# Altium footprint library Fuse.PcbLib: 10 footprints
Each footprint in its own frame and in the unit in brackets; x right, y up, seen from the top. Pads: shape width x height; smd on the part's side, far side on the other; paste and mask are expansions set on the pad; w line width, h text height; cw(c..) or ccw(c..) is an arc to the next point about the centre after c.
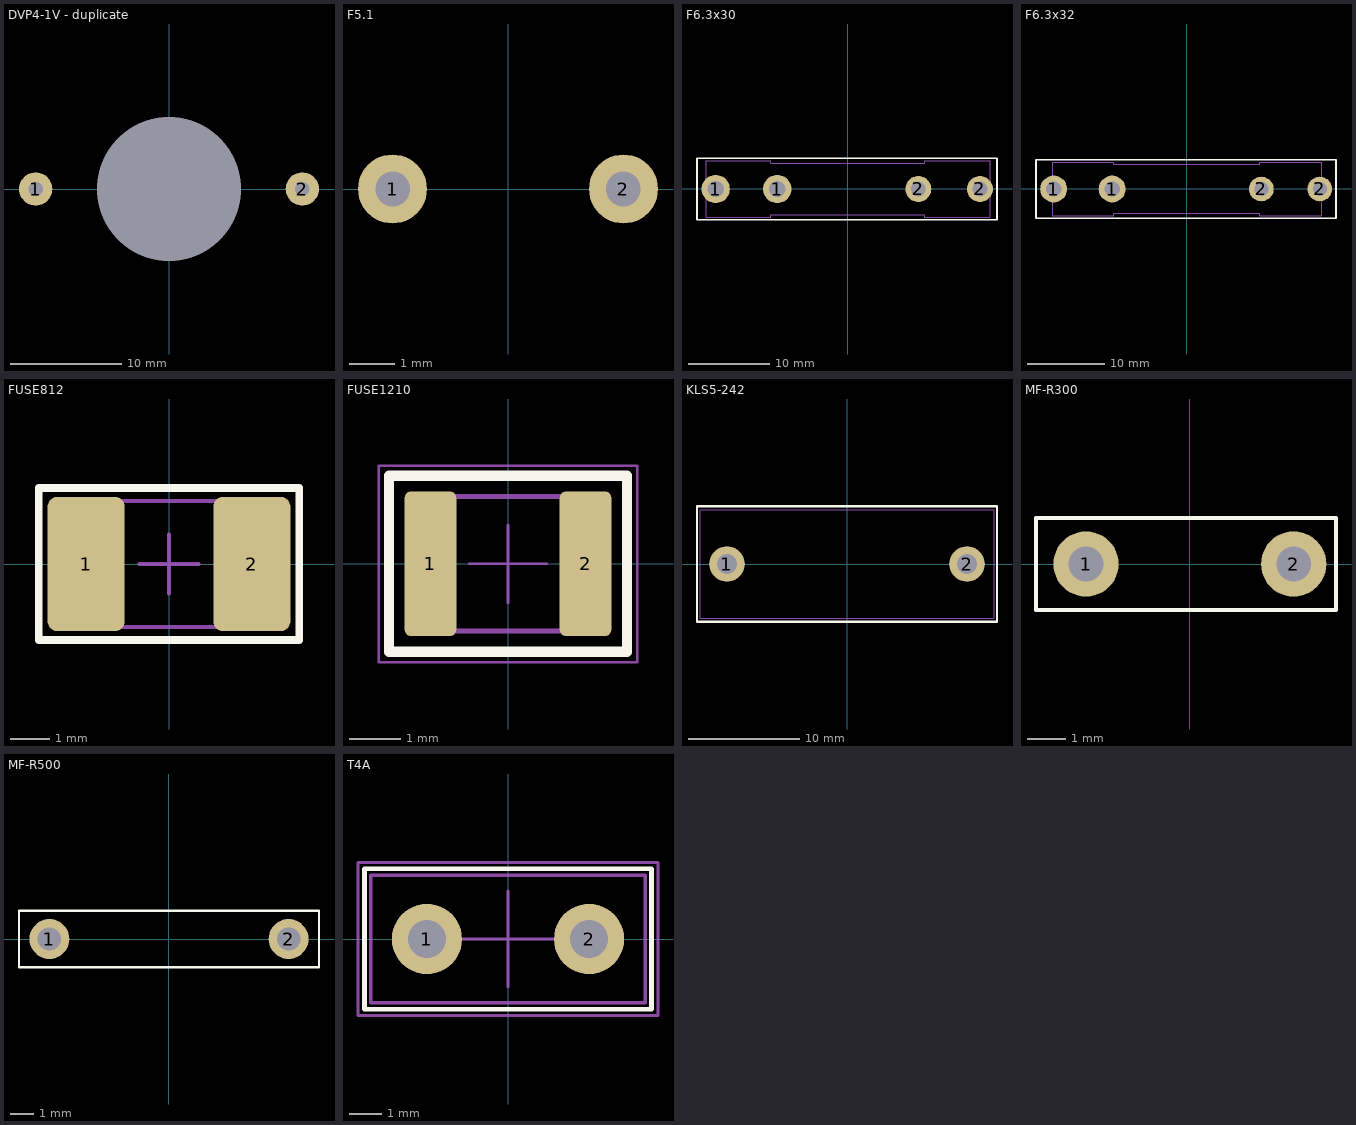
[diagram p0: the footprints below, top view; thin cyan lines are the x and y axes]

## DVP4-1V - duplicate [mm]
pads (3):
  round 3 hole 1.3: 1(-12,0) 2(12,0)
  round 1.7 hole 13 unplated: ""(0,0)
3D body "ДВП4-1В.stp": height 15.9, standoff -16.5, extent -8.196,-8.2 8.196,8.2

## F5.1 [mil]
pads (2):
  round 60 hole 30: 1(-100.39,0) 2(100.39,0)
3D body "MF-R110.STEP": height 608.27, standoff -251.97, extent -185.31,-117.76 185.51,116.27

## F6.3x30 [mm]
pads (4):
  round 3.5 hole 2: 1(-16.3,0) 1(-8.7,0)
  round 3.2 hole 1.8: 2(8.7,0) 2(16.3,0)
Top Overlay:
  lines w0.2: -18.6,-3.8 18.4,-3.8 18.4,3.8 -18.6,3.8 -18.6,-3.8
Mechanical 9:
  text ".Designator" at -5.4,8.4 h3.5
Mechanical 10:
  text ".Comment" at -3,6.1 h2
Mechanical 11:
  lines w0.1: -9.501,-3.5 -9.501,-3.2 ; -9.501,-3.154 9.497,-3.154 ; -9.501,3.5 -9.501,3.2 9.497,3.2 9.497,3.5 ; -9.5,-3.5 -17.5,-3.5 -17.5,3.5 -9.5,3.5 ; 9.495,-3.454 9.495,-3.154 ; 9.5,-3.5 17.5,-3.5 17.5,3.5 9.5,3.5
3D body "User Library-Fuse-2.STEP": height 9.46, standoff 3.11, extent -15.963,-3.151 15.797,3.199
3D body "User Library-FH-103 fuse holder 6_4mm.step": height 10.7, standoff -2.99, extent -16.502,-3.512 -8.5,3.5
3D body "User Library-FH-103 fuse holder 6_4mm.step": height 10.7, standoff -2.99, extent 8.498,-3.512 16.5,3.5

## F6.3x32 [mm]
pads (4):
  round 3.5 hole 2: 1(-17.3,0) 1(-9.7,0)
  round 3.2 hole 1.8: 2(9.7,0) 2(17.3,0)
Top Overlay:
  lines w0.2: -19.6,-3.8 19.4,-3.8 19.4,3.8 -19.6,3.8 -19.6,-3.8
Mechanical 9:
  text ".Designator" at -5.4,8.4 h3.5
Mechanical 10:
  text ".Comment" at -3,6.1 h2
Mechanical 11:
  lines w0.1: -9.501,-3.5 -9.501,-3.2 ; -9.501,-3.154 9.497,-3.154 ; -9.501,3.5 -9.501,3.2 9.497,3.2 9.497,3.5 ; -9.5,-3.5 -17.5,-3.5 -17.5,3.5 -9.5,3.5 ; 9.495,-3.454 9.495,-3.154 ; 9.5,-3.5 17.5,-3.5 17.5,3.5 9.5,3.5
3D body "User Library-Fuse-2.STEP": height 9.46, standoff 3.11, extent -15.963,-3.151 15.797,3.199
3D body "User Library-FH-103 fuse holder 6_4mm.step": height 10.7, standoff -2.99, extent -17.502,-3.512 -9.5,3.5
3D body "User Library-FH-103 fuse holder 6_4mm.step": height 10.7, standoff -2.99, extent 9.498,-3.512 17.5,3.5

## FUSE812 [mm] "Самовосстанавливающийся предохранитель"
pads (2):
  rrect25% 1.95x3.4 smd: 1(-2.1,0) 2(2.1,0)
Top Overlay:
  lines w0.2: -3.3,-1.925 3.3,-1.925 3.3,1.925 -3.3,1.925 -3.3,-1.925
Mechanical 9:
  text ".Designator" at -5.5,3.6 h3.5
Mechanical 10:
  text ".Comment" at -2.8,-4 h2
Mechanical 11:
  lines w0.1: -2.325,-1.6 -2.325,1.6 2.325,1.6 2.325,-1.6 -2.325,-1.6
Mechanical 15:
  lines w0.05: -3.3,-1.925 -3.3,1.925 3.3,1.925 3.3,-1.925 -3.3,-1.925
  lines w0.1: -0.75,0 0.75,0 ; 0,-0.75 0,0.75
3D body "User Library-fuse1812.step": height 1.32, standoff 0, extent -2.41,-1.61 2.41,1.61

## FUSE1210 [mm]
pads (2):
  rrect25% 1x2.8 smd: 1(-1.5,0) 2(1.5,0)
Top Overlay:
  lines w0.2: -2.3,-1.7 -2.3,1.7 2.3,1.7 2.3,-1.7 -2.3,-1.7
Mechanical 9:
  text ".Designator" at -5.5,3.6 h3.5
Mechanical 10:
  text ".Comment" at -2.8,-4 h2
Mechanical 13:
  lines w0.1: -1.6,-1.3 1.6,-1.3 1.6,1.3 -1.6,1.3 -1.6,-1.3
Mechanical 15:
  lines w0.05: -0.75,0 0.75,0 ; 0,-0.75 0,0.75 ; -2.5,-1.9 2.502,-1.9 2.502,1.891 -2.5,1.891 -2.5,-1.9
3D body "User Library-Fuse1210.step": height 0.67, standoff 0, extent -1.607,-1.287 1.608,1.288

## KLS5-242 [mm]
pads (2):
  round 3.2 hole 1.8: 1(-10.8,0) 2(10.8,0)
Top Overlay:
  lines w0.2: -13.5,-5.2 13.5,-5.2 13.5,5.2 -13.5,5.2 -13.5,-5.2
Mechanical 11:
  lines w0.1: -13.248,4.9 -13.248,-4.9 13.229,-4.9 13.229,4.9 ; -13.225,4.9 13.252,4.9
3D body "User Library-FH-101C.step": height 13.4, standoff -3, extent -13.248,-4.9 13.252,4.9

## MF-R300 [mm] "Самовосстанавливающийся предохранитель"
pads (2):
  round 1.7 hole 0.9: 1(-2.7,0) 2(2.7,0)
Top Overlay:
  lines w0.1: -4,-1.2 -4,-1 -4,1.2 3.8,1.2 3.8,-1.2 -4,-1.2
3D body "User Library-MF-R250.STEP": height 19.3, standoff -6.6, extent -6.12,-3.377 6.12,3.377

## MF-R500 [mm] "Самовосстанавливающийся предохранитель"
pads (2):
  round 1.7 hole 1: 1(-5.1,0) 2(5.1,0)
Top Overlay:
  lines w0.1: -6.4,-1.2 -6.4,-1 -6.4,1.2 6.4,1.2 6.4,-1.2 -6.4,-1.2
3D body "User Library-MF-R700.step": height 32.8, standoff -1, extent -10.801,-3.354 10.801,3.2

## T4A [mm] "Radial Lead Micro Fuse  Slow Blow"
pads (2):
  round 2.2 hole 1.2: 1(-2.54,0) 2(2.54,0)
Top Overlay:
  lines w0.15: -4.5,-2.2 -4.5,2.2 4.5,2.2 4.5,-2.2 -4.5,-2.2
Mechanical 7:
  lines w0.1: -4.3,-2 -4.3,2 4.3,2 4.3,-2 -4.3,-2
Mechanical 9:
  text ".Designator" at -5.5,3.6 h3.5
Mechanical 10:
  text ".Comment" at -2.8,-4 h2
Mechanical 15:
  lines w0.1: -1.5,0 1.5,0 ; 0,-1.5 0,1.5 ; -4.7,-2.4 4.7,-2.4 4.7,2.4 -4.7,2.4 -4.7,-2.4
3D body "User Library-A3D-008-00001.step": height 8, standoff -3, extent -4.25,-2 4.25,2